# Altium schematic symbol library JUMPER_2P.SchLib: 1 symbol
Pins are listed as number, name and electrical type; pins without a type are passive.

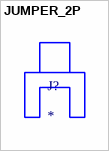
[diagram p0: symbol JUMPER_2P]

## JUMPER_2P
designator J?
Value: *